# Altium schematic symbol library MT41K256M16TW.SchLib: 1 symbol
Pins are listed as number, name and electrical type; pins without a type are passive.

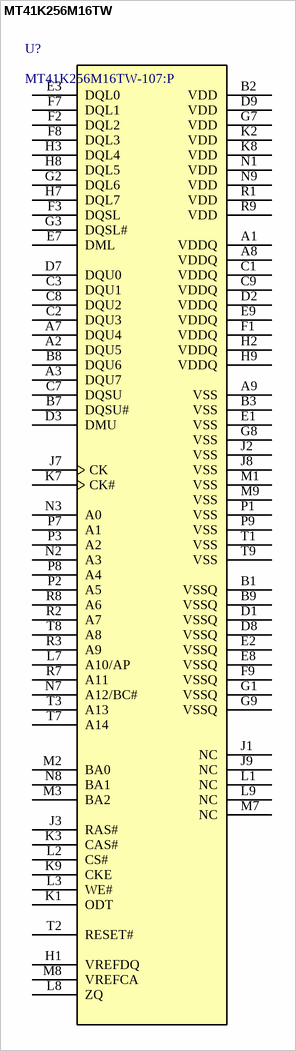
[diagram p0: symbol MT41K256M16TW]

## MT41K256M16TW
designator U?, comment MT41K256M16TW-107:P
SDRAM - DDR3L Memory IC 4Gbit Parallel 933 MHz 20 ns 96-FBGA (8x14)
footprint BGA96C80P9X16_800X1400X110 (BGA, 96-Leads, Body 8,00x14,00mmx1,10mm, Pitch 0,80mm)
pins: A1 VDDQ "DQ Power Supply: 1.5 V +/- 0.075 V for standard voltage or 1.35V +0.1V, -0.067V for low voltage", A2 DQU5 "Data Input/ Output: Bi-directional data bus.", A3 DQU7 "Data Input/ Output: Bi-directional data bus.", A7 DQU4 "Data Input/ Output: Bi-directional data bus.", A8 VDDQ "DQ Power Supply: 1.5 V +/- 0.075 V for standard voltage or 1.35V +0.1V, -0.067V for low voltage", A9 VSS "Ground", B1 VSSQ "DQ Ground", B2 VDD "Power Supply: 1.5 V +/- 0.075 V for standard voltage or 1.35V +0.1V, -0.067V for low voltage", B3 VSS "Ground", B7 DQSU# "Data Strobe: output with read data, input with write data. Edge-aligned with read data, centered in write data. For the x16, DQSL corresponds to the data on DQL0-DQL7; DQSU corresponds to the data on DQU0-DQU7. The data strobes DQS, DQSL, and DQSU are pa", B8 DQU6 "Data Input/ Output: Bi-directional data bus.", B9 VSSQ "DQ Ground", C1 VDDQ "DQ Power Supply: 1.5 V +/- 0.075 V for standard voltage or 1.35V +0.1V, -0.067V for low voltage", C2 DQU3 "Data Input/ Output: Bi-directional data bus.", C3 DQU1 "Data Input/ Output: Bi-directional data bus.", C7 DQSU "Data Strobe: output with read data, input with write data. Edge-aligned with read data, centered in write data. For the x16, DQSL corresponds to the data on DQL0-DQL7; DQSU corresponds to the data on DQU0-DQU7. The data strobes DQS, DQSL, and DQSU are pa", C8 DQU2 "Data Input/ Output: Bi-directional data bus.", C9 VDDQ "DQ Power Supply: 1.5 V +/- 0.075 V for standard voltage or 1.35V +0.1V, -0.067V for low voltage", D1 VSSQ "DQ Ground", D2 VDDQ "DQ Power Supply: 1.5 V +/- 0.075 V for standard voltage or 1.35V +0.1V, -0.067V for low voltage", D3 DMU "Input Data Mask: DM is an input mask signal for write data. Input data is masked when DM is sampled HIGH coincident with that input data during a Write access. DM is sampled on both edges of DQS. For x8 device, the function of DM or TDQS/TDQS# is enabled", D7 DQU0 "Data Input/ Output: Bi-directional data bus.", D8 VSSQ "DQ Ground", D9 VDD "Power Supply: 1.5 V +/- 0.075 V for standard voltage or 1.35V +0.1V, -0.067V for low voltage", E1 VSS "Ground", E2 VSSQ "DQ Ground", E3 DQL0 "Data Input/ Output: Bi-directional data bus.", E7 DML "Input Data Mask: DM is an input mask signal for write data. Input data is masked when DM is sampled HIGH coincident with that input data during a Write access. DM is sampled on both edges of DQS. For x8 device, the function of DM or TDQS/TDQS# is enabled", E8 VSSQ "DQ Ground", E9 VDDQ "DQ Power Supply: 1.5 V +/- 0.075 V for standard voltage or 1.35V +0.1V, -0.067V for low voltage", F1 VDDQ "DQ Power Supply: 1.5 V +/- 0.075 V for standard voltage or 1.35V +0.1V, -0.067V for low voltage", F2 DQL2 "Data Input/ Output: Bi-directional data bus.", F3 DQSL "Data Strobe: output with read data, input with write data. Edge-aligned with read data, centered in write data. For the x16, DQSL corresponds to the data on DQL0-DQL7; DQSU corresponds to the data on DQU0-DQU7. The data strobes DQS, DQSL, and DQSU are pa", F7 DQL1 "Data Input/ Output: Bi-directional data bus.", F8 DQL3 "Data Input/ Output: Bi-directional data bus.", F9 VSSQ "DQ Ground", G1 VSSQ "DQ Ground", G2 DQL6 "Data Input/ Output: Bi-directional data bus.", G3 DQSL# "Data Strobe: output with read data, input with write data. Edge-aligned with read data, centered in write data. For the x16, DQSL corresponds to the data on DQL0-DQL7; DQSU corresponds to the data on DQU0-DQU7. The data strobes DQS, DQSL, and DQSU are pa", G7 VDD "Power Supply: 1.5 V +/- 0.075 V for standard voltage or 1.35V +0.1V, -0.067V for low voltage", G8 VSS "Ground", G9 VSSQ "DQ Ground", H1 VREFDQ "Reference voltage for DQ", H2 VDDQ "DQ Power Supply: 1.5 V +/- 0.075 V for standard voltage or 1.35V +0.1V, -0.067V for low voltage", H3 DQL4 "Data Input/ Output: Bi-directional data bus.", H7 DQL7 "Data Input/ Output: Bi-directional data bus.", H8 DQL5 "Data Input/ Output: Bi-directional data bus.", H9 VDDQ "DQ Power Supply: 1.5 V +/- 0.075 V for standard voltage or 1.35V +0.1V, -0.067V for low voltage", J1 NC "No Connect: No internal electrical connection is present.", J2 VSS "Ground", J3 RAS# "Command Inputs: RAS#, CAS# and WE# (along with CS#) define the command being entered.", J7 CK "Clock: CK and CK# are differential clock inputs. All address and control input signals are sampled on the crossing of the positive edge of CK and negative edge of CK#.", J8 VSS "Ground", J9 NC "No Connect: No internal electrical connection is present.", K1 ODT "On Die Termination: ODT (registered HIGH) enables termination resistance internal to the DDR3 SDRAM. When enabled, ODT is only applied to each DQ, DQSU, DQSU#, DQSL, DQSL#, DMU, and DML signal. The ODT pin will be ignored if MR1 and MR2 are programmed to", K2 VDD "Power Supply: 1.5 V +/- 0.075 V for standard voltage or 1.35V +0.1V, -0.067V for low voltage", K3 CAS# "Command Inputs: RAS#, CAS# and WE# (along with CS#) define the command being entered.", K7 CK# "Clock: CK and CK# are differential clock inputs. All address and control input signals are sampled on the crossing of the positive edge of CK and negative edge of CK#.", K8 VDD "Power Supply: 1.5 V +/- 0.075 V for standard voltage or 1.35V +0.1V, -0.067V for low voltage", K9 CKE "Clock Enable: CKE HIGH activates, and CKE Low deactivates, internal clock signals and device input buffers and output drivers. Taking CKE Low provides Precharge Power-Down and Self-Refresh operation (all banks idle), or Active Power-Down (row Active in a", L1 NC "No Connect: No internal electrical connection is present.", L2 CS# "Chip Select: All commands are masked when CS# is registered HIGH. CS# provides for external Rank selection on systems with multiple Ranks. CS# is considered part of the command code.", L3 WE# "Command Inputs: RAS#, CAS# and WE# (along with CS#) define the command being entered.", L7 A10/AP "Auto-precharge: A10 is sampled during Read/Write commands to determine whether Autoprecharge should be performed to the accessed bank after the Read/Write operation. (HIGH: Autoprecharge; LOW: no Autoprecharge). A10 is sampled during a Precharge command", L8 ZQ "Reference Pin for ZQ", L9 NC "No Connect: No internal electrical connection is present.", M1 VSS "Ground", M2 BA0 "Bank Address Inputs: BA0 - BA2 define to which bank an Active, Read, Write, or Precharge command is being applied. Bank address also determines which mode register is to be accessed during a MRS cycle.", M3 BA2 "Bank Address Inputs: BA0 - BA2 define to which bank an Active, Read, Write, or Precharge command is being applied. Bank address also determines which mode register is to be accessed during a MRS cycle.", M7 NC "No Connect: No internal electrical connection is present.", M8 VREFCA "Reference voltage for CA", M9 VSS "Ground", N1 VDD "Power Supply: 1.5 V +/- 0.075 V for standard voltage or 1.35V +0.1V, -0.067V for low voltage", N2 A3 "Address Inputs: Provide the row address for Active commands and the column address for Read/ Write commands to select one location out of the memory array in the respective bank. (A10/AP and A12/BC# have additional functions; see below). The address inpu", N3 A0 "Address Inputs: Provide the row address for Active commands and the column address for Read/ Write commands to select one location out of the memory array in the respective bank. (A10/AP and A12/BC# have additional functions; see below). The address inpu", N7 A12/BC# "Burst Chop: A12 / BC# is sampled during Read and Write commands to determine if burst chop (on-the-fly) will be performed. (HIGH, no burst chop; LOW: burst chopped). See command truth table for details.", N8 BA1 "Bank Address Inputs: BA0 - BA2 define to which bank an Active, Read, Write, or Precharge command is being applied. Bank address also determines which mode register is to be accessed during a MRS cycle.", N9 VDD "Power Supply: 1.5 V +/- 0.075 V for standard voltage or 1.35V +0.1V, -0.067V for low voltage", P1 VSS "Ground", P2 A5 "Address Inputs: Provide the row address for Active commands and the column address for Read/ Write commands to select one location out of the memory array in the respective bank. (A10/AP and A12/BC# have additional functions; see below). The address inpu", P3 A2 "Address Inputs: Provide the row address for Active commands and the column address for Read/ Write commands to select one location out of the memory array in the respective bank. (A10/AP and A12/BC# have additional functions; see below). The address inpu", P7 A1 "Address Inputs: Provide the row address for Active commands and the column address for Read/ Write commands to select one location out of the memory array in the respective bank. (A10/AP and A12/BC# have additional functions; see below). The address inpu", P8 A4 "Address Inputs: Provide the row address for Active commands and the column address for Read/ Write commands to select one location out of the memory array in the respective bank. (A10/AP and A12/BC# have additional functions; see below). The address inpu", P9 VSS "Ground", R1 VDD "Power Supply: 1.5 V +/- 0.075 V for standard voltage or 1.35V +0.1V, -0.067V for low voltage", R2 A7 "Address Inputs: Provide the row address for Active commands and the column address for Read/ Write commands to select one location out of the memory array in the respective bank. (A10/AP and A12/BC# have additional functions; see below). The address inpu", R3 A9 "Address Inputs: Provide the row address for Active commands and the column address for Read/ Write commands to select one location out of the memory array in the respective bank. (A10/AP and A12/BC# have additional functions; see below). The address inpu", R7 A11 "Address Inputs: Provide the row address for Active commands and the column address for Read/ Write commands to select one location out of the memory array in the respective bank. (A10/AP and A12/BC# have additional functions; see below). The address inpu", R8 A6 "Address Inputs: Provide the row address for Active commands and the column address for Read/ Write commands to select one location out of the memory array in the respective bank. (A10/AP and A12/BC# have additional functions; see below). The address inpu", R9 VDD "Power Supply: 1.5 V +/- 0.075 V for standard voltage or 1.35V +0.1V, -0.067V for low voltage", T1 VSS "Ground", T2 RESET# "Active Low Asynchronous Reset: Reset is active when RESET# is LOW, and inactive when RESET# is HIGH. RESET# must be HIGH during normal operation. RESET# is a CMOS rail- to-rail signal with DC high and low at 80% and 20% of VDD, i.e., 1.20V for DC high an", T3 A13 "Burst Chop: A12 / BC# is sampled during Read and Write commands to determine if burst chop (on-the-fly) will be performed. (HIGH, no burst chop; LOW: burst chopped). See command truth table for details.", T7 A14 "Burst Chop: A12 / BC# is sampled during Read and Write commands to determine if burst chop (on-the-fly) will be performed. (HIGH, no burst chop; LOW: burst chopped). See command truth table for details.", T8 A8 "Address Inputs: Provide the row address for Active commands and the column address for Read/ Write commands to select one location out of the memory array in the respective bank. (A10/AP and A12/BC# have additional functions; see below). The address inpu", T9 VSS "Ground"